# Altium schematic symbol library Schlib3.SchLib: 9 symbols
Pins are listed as number, name and electrical type; pins without a type are passive.

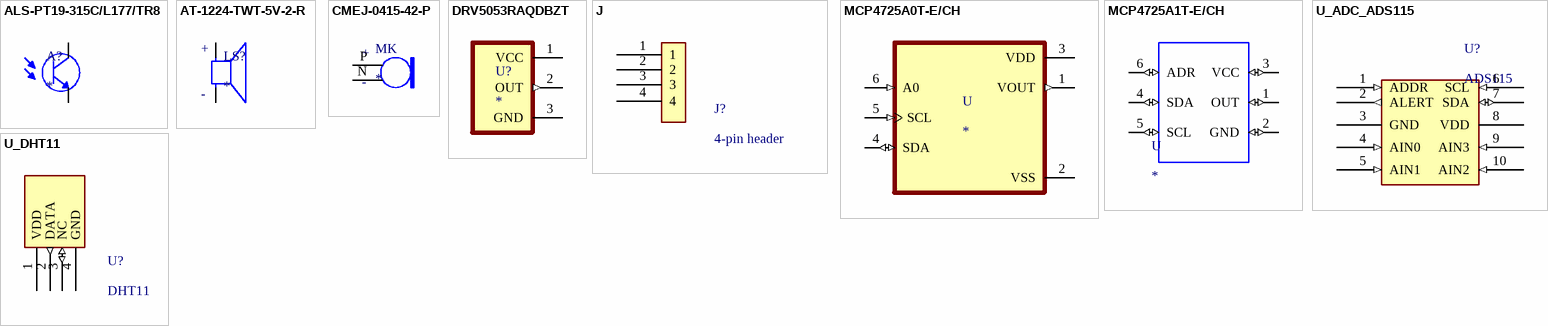
[diagram p0: symbols ALS-PT19-315C/L177/TR8 to U_DHT11]

## ALS-PT19-315C/L177/TR8
designator A?
Phototransistors 630nm 2-SMD, No Lead; MP: ALS-PT19-315C/L177/TR8; MF: Everlight; Availability: Good; Check_prices: https://www.snapeda.com/parts/ALS-PT19-315C/L177/TR8/Everlight%20Electronics%20Co%20Ltd/view-part/226235/?ref=eda; SnapEDA_Link: https://www.snapeda.com/parts/ALS-PT19-315C/L177/TR8/Everlight%20Electronics%20Co%20Ltd/view-part/226235/?ref=snap; Price: None; Purchase-URL: https://pricing.snapeda.com/search/part/ALS-PT19-315C/L177/TR8/?ref=eda; Package: None; Value: *
footprint XDCR_ALS-PT19-315C/L177/TR8
pins: 1 C, 2 E

## AT-1224-TWT-5V-2-R
designator LS?
AUDIO TRANSDUCER 5 VP-P 87 DB 2400 HZ; MF: PUI Audio,; MP: AT-1224-TWT-5V-2-R; Check_prices: https://www.snapeda.com/parts/AT-1224-TWT-5V-2-R/PUI%20Audio,%20Inc./view-part/453710/?ref=eda; Purchase-URL: https://pricing.snapeda.com/search/part/AT-1224-TWT-5V-2-R/?ref=eda; SnapEDA_Link: https://www.snapeda.com/parts/AT-1224-TWT-5V-2-R/PUI%20Audio,%20Inc./view-part/453710/?ref=snap; Value: *; Package: PUI Audio,; Price: None; Availability: In Stock
footprint XDCR_AT-1224-TWT-5V-2-R
pins: N, P
text: +; -

## CMEJ-0415-42-P
designator MK
4.0 Ð¼Ð¼, Ð²ÑÐµÐ½Ð°Ð¿Ñ€Ð°Ð²Ð»ÐµÐ½Ð½Ñ‹Ð¹, Ð¼Ð¾Ð½Ñ‚Ð°Ð¶ Ð½Ð° Ð¿ÐµÑ‡Ð°Ñ‚Ð½Ð¾Ð¹ Ð¿Ð»Ð°Ñ‚Ðµ, 2.0 Ð’ Ð¿Ð¾ÑÑ‚Ð¾ÑÐ½Ð½Ð¾Ð³Ð¾ Ñ‚Ð¾ÐºÐ°, Ð­Ð»ÐµÐºÑ€ÐµÑ‚-ÐºÐ¾Ð½Ð´ÐµÐ½ÑÐ°Ñ‚Ð¾Ñ€Ð½Ñ‹Ð¹ Ð¼Ð¸ÐºÑ€Ð¾Ñ„Ð¾Ð½; MF: CUI Devices; MP: CMEJ-0415-42-P; Digi-Key_Part_Number: 102-6542-ND; Package: CUI Inc.; CUI_purchase_URL: https://www.cuidevices.com/product/audio/microphones/electret-condenser-microphones/cmej-0415-42-p?utm_source=snapeda.com&utm_medium=referral&utm_campaign=snapedaBOM; Digi-Key_Purchase_URL: https://www.digikey.com/product-detail/en/cui-devices/CMEJ-0415-42-P/102-6542-ND/10253451?utm_source=snapeda&utm_medium=aggregator&utm_campaign=symbol; SnapEDA_Link: https://www.snapeda.com/parts/CMEJ-0415-42-P/CUI%20Devices/view-part/3625885/?ref=snap; Value: *
footprint MIC_CMEJ-0415-42-P
pins: N GND, P OUTPUT
text: +; -

## DRV5053RAQDBZT
designator U?
SENSOR LINEAR ANALOG SOT23-3; MP: DRV5053RAQDBZT; Package: None; Price: None; Value: *; Availability: Unavailable
footprint SOT95P237X112-3N
pins: 1 VCC (power), 2 OUT (out), 3 GND (power)

## J
designator J?, comment 4-pin header
footprint 4pinheader
pins: 1, 2, 3, 4

## MCP4725A0T-E/CH
designator U
12 Bit Digital to Analog Converter 1 SOT-23-6; MF: Microchip; MP: MCP4725A0T-E/CH; Package: SOT-23-6 Microchip; Value: *; Availability: Unavailable; SnapEDA_Link: https://www.snapeda.com/parts/MCP4725A0T-E/CH/Microchip/view-part/109888/?ref=snap; Price: None
footprint SOT95P270X145-6N
pins: 1 VOUT (out), 2 VSS (power), 3 VDD (power), 4 SDA (io), 5 SCL (in), 6 A0 (in)

## MCP4725A1T-E/CH
designator U
12 Bit Digital to Analog Converter 1 SOT-23-6; MP: MCP4725A1T-E/CH; MF: Microchip; Availability: Unavailable; SnapEDA_Link: https://www.snapeda.com/parts/MCP4725A1T-E/CH/Microchip/view-part/383076/?ref=snap; Price: None; Value: *; Package: SOT-23-6 Microchip
footprint SOT23-6
pins: 1 OUT (io), 2 GND (io), 3 VCC (io), 4 SDA (io), 5 SCL (io), 6 ADR (io)

## U_ADC_ADS115
designator U?, comment ADS115
Differential, Single Ended 2,4 860 16 VSSOP-10 Analog To Digital Converters (ADCs) ROHS; MFR.Part #: ADS1115IDGSR; LCSC Part#: C37593; Datasheet: https://datasheet.lcsc.com/lcsc/1809192322_Texas-Instruments-ADS1115IDGSR_C37593.pdf; Package: MSOP-10
footprint ADC1115
pins: 1 ADDR (in), 2 ALERT (out), 3 GND (power), 4 AIN0 (in), 5 AIN1 (in), 6 SCL (in), 7 SDA (io), 8 VDD (power), 9 AIN3 (in), 10 AIN2 (in)

## U_DHT11
designator U?, comment DHT11
Humidity, Temperature - 16.1mm*12.6mm*5.8mm Humidity Sensors/Temperature and Humidity Sensors ROHS; datasheet: https://datasheet.lcsc.com/lcsc/1811061719_Aosong--Guangzhou-Elec-DHT11_C117051.pdf; LCSC Part#: C117051; MFR.Part #: DHT11
footprint DHT11
pins: 1 VDD (power), 2 DATA (out), 3 NC (io), 4 GND (power)